# Altium footprint library 53048-0510.PcbLib: 1 footprints
Each footprint in its own frame and in the unit in brackets; x right, y up, seen from the top. Pads: shape width x height; smd on the part's side, far side on the other; paste and mask are expansions set on the pad; w line width, h text height; cw(c..) or ccw(c..) is an arc to the next point about the centre after c.
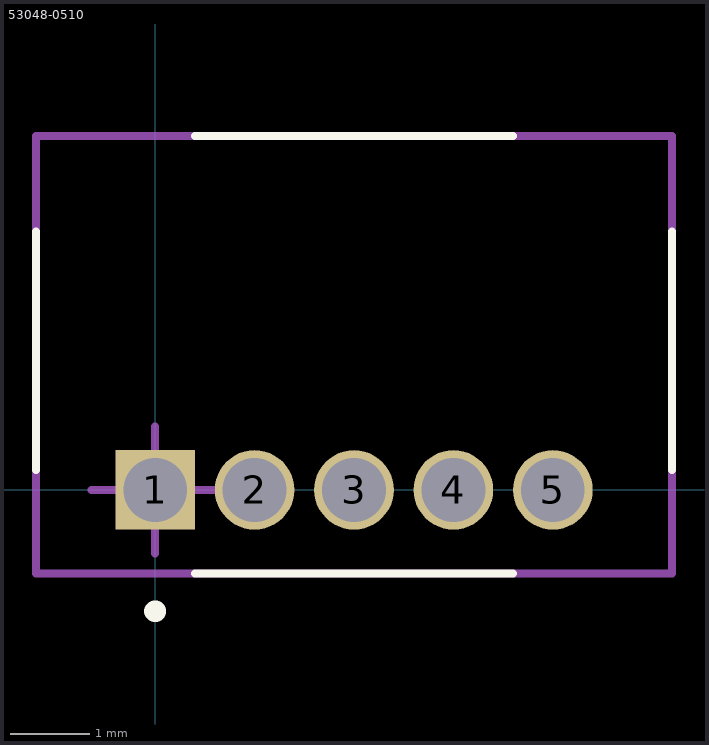
[diagram p0: the footprint, top view; thin cyan lines are the x and y axes]

## 53048-0510 [mm]
pads (5):
  rect 1x1 hole 0.8 mask+0.051: 1(0,0)
  round 1 hole 0.8 mask+0.051: 2(1.25,0) 3(2.5,0) 4(3.75,0) 5(5,0)
Top Overlay:
  circle w0.254: c0,-1.525 r0.01
  lines w0.1: -1.5,0.25 -1.5,3.25 ; 0.5,-1.05 4.5,-1.05 ; 0.5,4.45 4.5,4.45 ; 6.5,0.25 6.5,3.25
Mechanical 13:
  lines w0.1: -1.5,-1.05 6.5,-1.05 6.5,4.45 -1.5,4.45 -1.5,-1.05
Mechanical 15:
  lines w0.1: -0.8,0 0,0 ; 0,-0.8 0,0 ; 0,0.8 0,0 ; 0.8,0 0,0
3D body "53048-0510.step": height 3.5, standoff -2.4, extent -1.5,-1.05 6.5,4.45